# EAGLE library part CAT16-103J4LF (library SamacSys_Parts)
4-array concave 1206 LF resistor,10K Bourns CAT16 Series 10k?? ??5% Isolated SMT Resistor Array, 4 Resistors, 0.25W total 1206 Package Source: Datasheet <http://www.bourns.com/docs/Product-Datasheets/cat16-j.pdf>
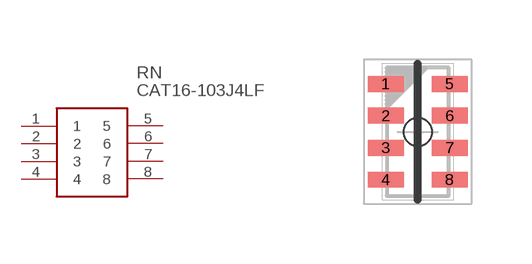
[diagram p6: symbol with the pads of CAPCAV80P155X320X60-8L; footprint CAPCAV80P155X320X60-8L]

Designator prefix RN

## CAT16-103J4LF (ALLIED_NUMBER: 70155480; ALLIED_PRICE-STOCK: http://www.alliedelec.com/bourns-cat16-103j4lf/70155480/; DESCRIPTION: 4-array concave 1206 LF resistor,10K Bourns CAT16 Series 10k?? ??5% Isolated SMT Resistor Array, 4 Resistors, 0.25W total 1206 Package; HEIGHT: 0.6mm; MANUFACTURER_NAME: Bourns; MANUFACTURER_PART_NUMBER: CAT16-103J4LF; MOUSER_PART_NUMBER: 652-CAT16-103J4LF; MOUSER_PRICE-STOCK: https://www.mouser.com/Search/Refine.aspx?Keyword=652-CAT16-103J4LF; RS_PART_NUMBER: 5225412P; RS_PRICE-STOCK: http://uk.rs-online.com/web/p/products/5225412P)  [CAPCAV80P155X320X60-8L]
1  1
2  2
3  3
4  4
5  5
6  6
7  7
8  8

## Footprint CAPCAV80P155X320X60-8L (pad centres in mm)
CAT16-F4, -J4
smd 0.9 x 0.4: 1 -0.8,1.2; 2 -0.8,0.4; 3 -0.8,-0.4; 4 -0.8,-1.2; 5 0.8,1.2; 6 0.8,0.4; 7 0.8,-0.4; 8 0.8,-1.2